# Altium footprint library TO-252-2-180.PcbLib: 1 footprints
Each footprint in its own frame and in the unit in brackets; x right, y up, seen from the top. Pads: shape width x height; smd on the part's side, far side on the other; paste and mask are expansions set on the pad; w line width, h text height; cw(c..) or ccw(c..) is an arc to the next point about the centre after c.
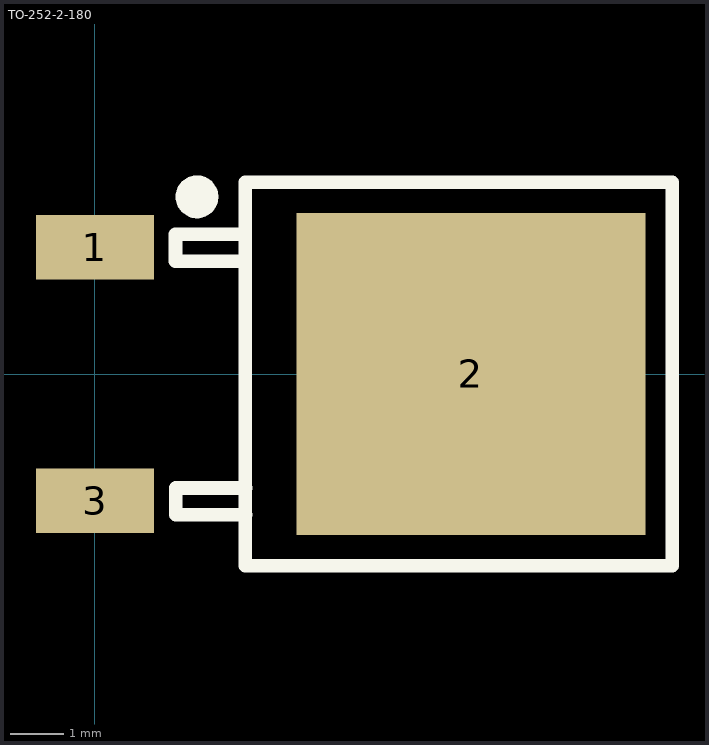
[diagram p0: the footprint, top view; thin cyan lines are the x and y axes]

## TO-252-2-180 [mm] "180度编带包装"
pads (3):
  rect 2.2x1.2 smd: 1(0,2.361) 3(0.004,-2.361)
  rect 6.5x6 smd: 2(7,0)
Top Overlay:
  circle w0.4: c1.9,3.3 r0.2
  lines w0.254: 2.8,2.1 1.5,2.1 1.5,2.6 2.8,2.6 ; 2.804,-2.623 1.504,-2.623 1.504,-2.123 2.804,-2.123 ; 2.8,-3.573 2.8,3.573 10.75,3.573 10.75,-3.573 2.8,-3.573
3D body: height 2.44, standoff 0.03, extent -0.2,-3.27 9.738,3.27